# EAGLE library part HDR-7_1735446-7 (library dpx-con-CUSTOM)
2MM PITCH HPI POST HEADER, VERTICAL, 7P Source: Datasheet <https://www.te.com/commerce/DocumentDelivery/DDEController?Action=srchrtrv&DocNm=1-1773713-2_HPI_QRG_EN&DocType=Data Sheet&DocLang=English&PartCntxt=1735446-7&DocFormat=pdf>
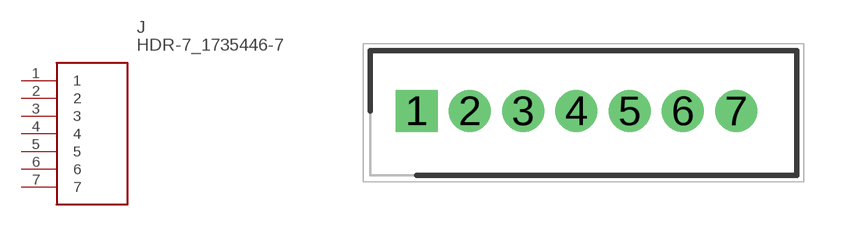
[diagram p28: symbol with the pads of SHDR7W60P0X200_1X7_1603X470X60; footprint SHDR7W60P0X200_1X7_1603X470X60]

Designator prefix J

## HDR-7_1735446-7 (DESCRIPTION: 2MM PITCH HPI POST HEADER, VERTICAL, 7P; HEIGHT: 6.07mm; MANUFACTURER_NAME: TE Connectivity; MANUFACTURER_PART_NUMBER: 1735446-7)  [SHDR7W60P0X200_1X7_1603X470X60]
1  1
2  2
3  3
4  4
5  5
6  6
7  7

## Footprint SHDR7W60P0X200_1X7_1603X470X60 (pad centres in mm)
hpi
drill 1.05 pad 1.575 square: 1 0,0
drill 1.05 pad 1.575: 2 2,0; 3 4,0; 4 6,0; 5 8,0; 6 10,0; 7 12,0